# Altium schematic symbol library Modules.SchLib: 10 symbols
Pins are listed as number, name and electrical type; pins without a type are passive.

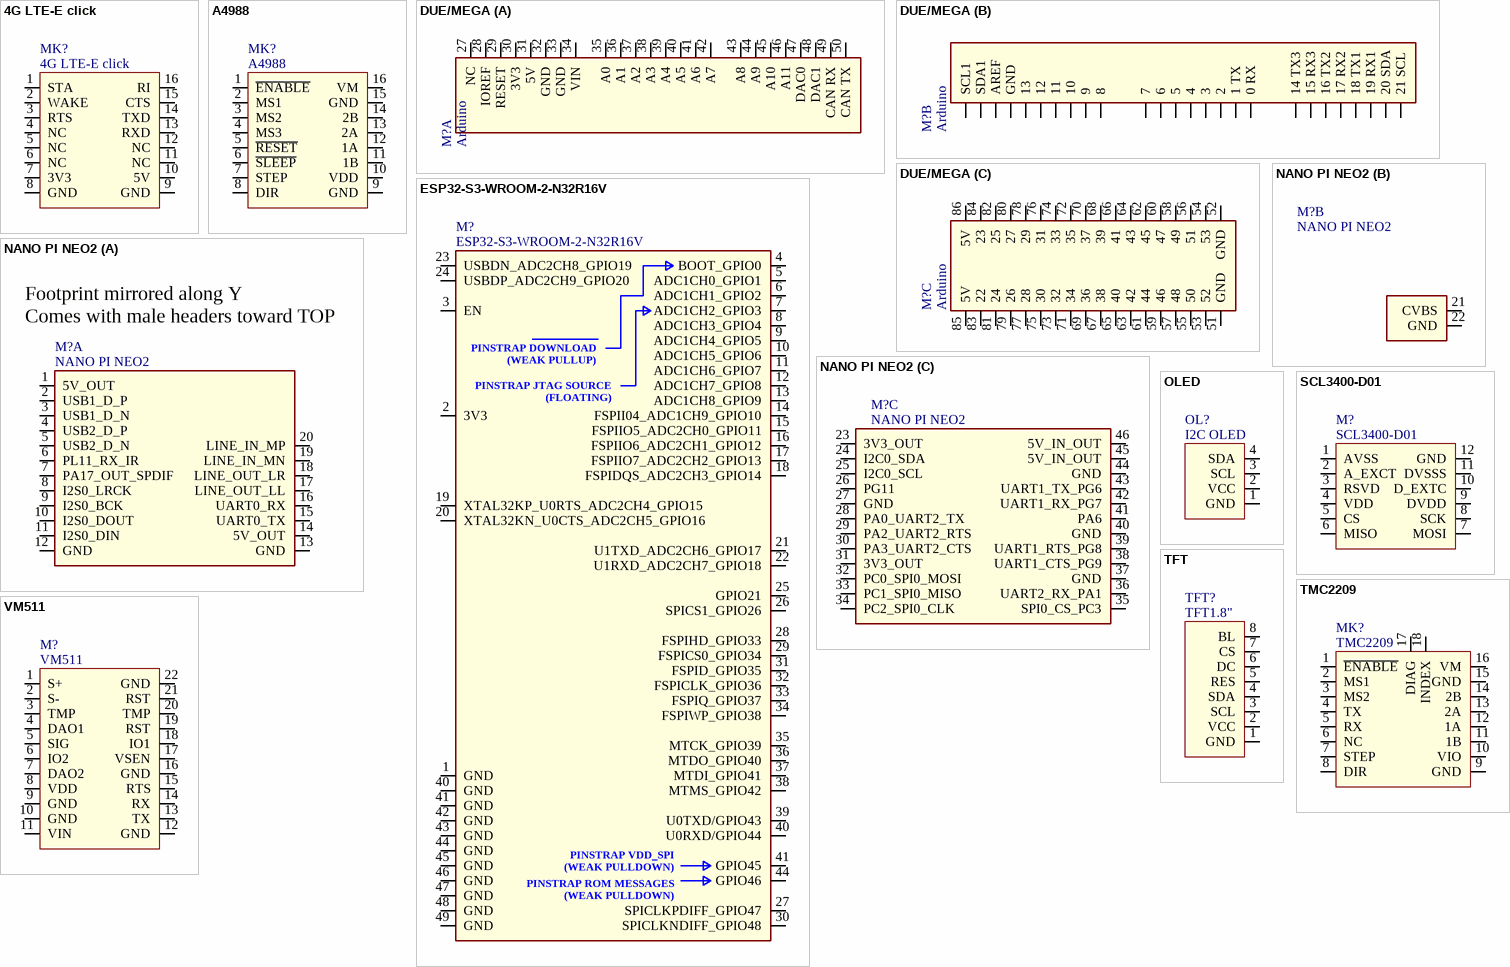
[diagram p0: symbols 4G LTE-E click to VM511]

## 4G LTE-E click
designator MK?
footprint 4G LTE-E click
pins: 1 STA, 2 WAKE, 3 RTS, 4 NC, 5 NC, 6 NC, 7 3V3, 8 GND, 9 GND, 10 5V, 11 NC, 12 NC, 13 RXD, 14 TXD, 15 CTS, 16 RI

## A4988
designator MK?
Stepper Driver
footprint A4988
pins: 1 ~{ENABLE}, 2 MS1, 3 MS2, 4 MS3, 5 ~{RESET}, 6 ~{SLEEP}, 7 STEP, 8 DIR, 9 GND, 10 VDD, 11 1B, 12 1A, 13 2A, 14 2B, 15 GND, 16 VM

## DUE/MEGA
designator M?, comment Arduino
footprint Arduino DUE
part A pins: 27 NC, 28 IOREF, 29 RESET, 30 3V3, 31 5V, 32 GND, 33 GND, 34 VIN, 35 A0, 36 A1, 37 A2, 38 A3, 39 A4, 40 A5, 41 A6, 42 A7, 43 A8, 44 A9, 45 A10, 46 A11, 47 DAC0, 48 DAC1, 49 CAN RX, 50 CAN TX
part B pins: 1 SCL1, 2 SDA1, 3 AREF, 4 GND, 5 13, 6 12, 7 11, 8 10, 9, 10 8, 11 7, 12 6, 13 5, 14 4, 15 3, 16 2, 17 1 TX, 18 0 RX, 19 14 TX3, 20 15 RX3, 21 16 TX2, 22 17 RX2, 23 18 TX1, 24 19 RX1, 25 20 SDA, 26 21 SCL
part C pins: 51 GND, 52 GND, 53 52, 54 53, 55 50, 56 51, 57 48, 58 49, 59 46, 60 47, 61 44, 62 45, 63 42, 64 43, 65 40, 66 41, 67 38, 68 39, 69 36, 70 37, 71 34, 72 35, 73 32, 74 33, 75 30, 76 31, 77 28, 78 29, 79 26, 80 27, 81 24, 82 25, 83 22, 84 23, 85 5V, 86 5V

## ESP32-S3-WROOM-2-N32R16V
designator M?
Code Arduino: XE_U0058; Manufacturer Part Number: ESP32-S3-WROOM-2-N32R16V
footprint ESP32-S3-WROOM-2-N32R16V (ESP32-S3R16V, with flash memory of Octal 32 MB and PSRAM memory of 16 MB. It provides acceleration for neural network computing and signal processing)
pins: 1 GND, 2 3V3, 3 EN, 4 BOOT_GPIO0, 5 ADC1CH0_GPIO1, 6 ADC1CH1_GPIO2, 7 ADC1CH2_GPIO3, 8 ADC1CH3_GPIO4, 9 ADC1CH4_GPIO5, 10 ADC1CH5_GPIO6, 11 ADC1CH6_GPIO7, 12 ADC1CH7_GPIO8, 13 ADC1CH8_GPIO9, 14 FSPII04_ADC1CH9_GPIO10, 15 FSPIIO5_ADC2CH0_GPIO11, 16 FSPIIO6_ADC2CH1_GPIO12, 17 FSPIIO7_ADC2CH2_GPIO13, 18 FSPIDQS_ADC2CH3_GPIO14, 19 XTAL32KP_U0RTS_ADC2CH4_GPIO15, 20 XTAL32KN_U0CTS_ADC2CH5_GPIO16, 21 U1TXD_ADC2CH6_GPIO17, 22 U1RXD_ADC2CH7_GPIO18, 23 USBDN_ADC2CH8_GPIO19, 24 USBDP_ADC2CH9_GPIO20, 25 GPIO21, 26 SPICS1_GPIO26, 27 SPICLKPDIFF_GPIO47, 28 FSPIHD_GPIO33, 29 FSPICS0_GPIO34, 30 SPICLKNDIFF_GPIO48, 31 FSPID_GPIO35, 32 FSPICLK_GPIO36, 33 FSPIQ_GPIO37, 34 FSPIWP_GPIO38, 35 MTCK_GPIO39, 36 MTDO_GPIO40, 37 MTDI_GPIO41, 38 MTMS_GPIO42, 39 U0TXD/GPIO43, 40 GND, 40 U0RXD/GPIO44, 41 GND, 41 GPIO45, 42 GND, 43 GND, 44 GND, 44 GPIO46, 45 GND, 46 GND, 47 GND, 48 GND, 49 GND
text: PINSTRAP DOWNLOAD / (WEAK PULLUP); PINSTRAP JTAG SOURCE / (FLOATING); PINSTRAP VDD_SPI / (WEAK PULLDOWN); PINSTRAP ROM MESSAGES / (WEAK PULLDOWN)

## NANO PI NEO2
designator M?
Nano PI NEO 2 LTS
footprint NanoPiNEO2
part A pins: 1 5V_OUT, 2 USB1_D_P, 3 USB1_D_N, 4 USB2_D_P, 5 USB2_D_N, 6 PL11_RX_IR, 7 PA17_OUT_SPDIF, 8 I2S0_LRCK, 9 I2S0_BCK, 10 I2S0_DOUT, 11 I2S0_DIN, 12 GND, 13 GND, 14 5V_OUT, 15 UART0_TX, 16 UART0_RX, 17 LINE_OUT_LL, 18 LINE_OUT_LR, 19 LINE_IN_MN, 20 LINE_IN_MP
part B pins: 21 CVBS, 22 GND
part C pins: 23 3V3_OUT, 24 I2C0_SDA, 25 I2C0_SCL, 26 PG11, 27 GND, 28 PA0_UART2_TX, 29 PA2_UART2_RTS, 30 PA3_UART2_CTS, 31 3V3_OUT, 32 PC0_SPI0_MOSI, 33 PC1_SPI0_MISO, 34 PC2_SPI0_CLK, 35 SPI0_CS_PC3, 36 UART2_RX_PA1, 37 GND, 38 UART1_CTS_PG9, 39 UART1_RTS_PG8, 40 GND, 41 PA6, 42 UART1_RX_PG7, 43 UART1_TX_PG6, 44 GND, 45 5V_IN_OUT, 46 5V_IN_OUT
part A text: Footprint mirrored along Y / Comes with male headers toward TOP

## OLED
designator OL?, comment I2C OLED
OLED I2C  0.96"
footprint OLED_0.96" (OLED I2C 0.96")
footprint OLED_0.96"_NOHEADER (OLED I2C 0.96")
pins: 1 GND, 2 VCC, 3 SCL, 4 SDA

## SCL3400-D01
designator M?
Digital 2-axis inclinometer
footprint SCL3400-D01 (Digital 2-axis inclinometer)
pins: 1 AVSS, 2 A_EXCT, 3 RSVD, 4 VDD, 5 CS, 6 MISO, 7 MOSI, 8 SCK, 9 DVDD, 10 D_EXTC, 11 DVSSS, 12 GND

## TFT
designator TFT?, comment TFT1.8"
footprint TFT_1.8"_NOSD (TFT_1.8")
pins: 1 GND, 2 VCC, 3 SCL, 4 SDA, 5 RES, 6 DC, 7 CS, 8 BL

## TMC2209
designator MK?
Stepper Driver
footprint TMC2209
pins: 1 ~{ENABLE}, 2 MS1, 3 MS2, 4 TX, 5 RX, 6 NC, 7 STEP, 8 DIR, 9 GND, 10 VIO, 11 1B, 12 1A, 13 2A, 14 2B, 15 GND, 16 VM, 17 DIAG, 18 INDEX

## VM511
designator M?
Vibrating sensor
footprint VM511 (Vibrating Sensor Module)
pins: 1 S+, 2 S-, 3 TMP, 4 DAO1, 5 SIG, 6 IO2, 7 DAO2, 8 VDD, 9 GND, 10 GND, 11 VIN, 12 GND, 13 TX, 14 RX, 15 RTS, 16 GND, 17 VSEN, 18 IO1, 19 RST, 20 TMP, 21 RST, 22 GND